# Altium footprint library SJ-2523-SMT-TR.PcbLib: 1 footprints
Each footprint in its own frame and in the unit in brackets; x right, y up, seen from the top. Pads: shape width x height; smd on the part's side, far side on the other; paste and mask are expansions set on the pad; w line width, h text height; cw(c..) or ccw(c..) is an arc to the next point about the centre after c.
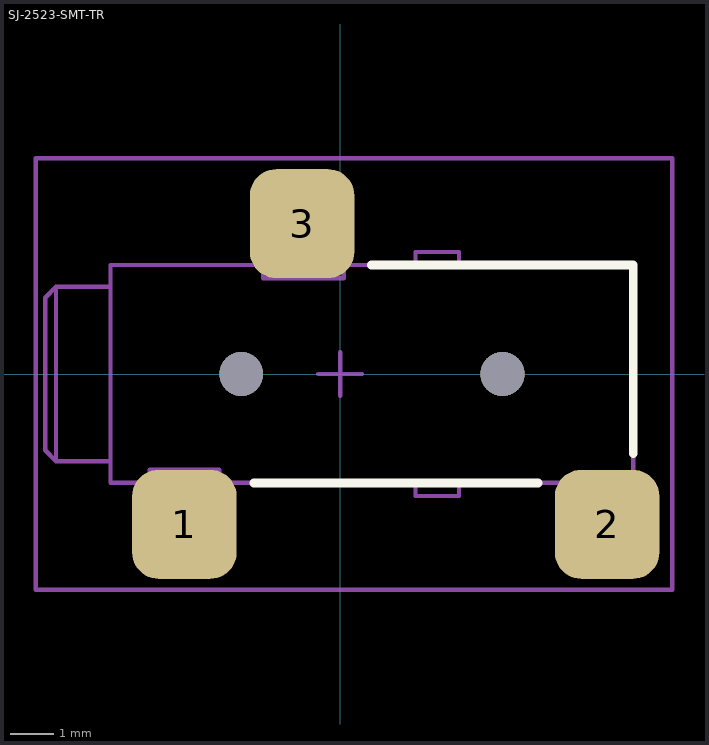
[diagram p0: the footprint, top view; thin cyan lines are the x and y axes]

## SJ-2523-SMT-TR [mm]
pads (3):
  rrect50% 2.4x2.5 smd mask+0: 1(-3.574,-3.45)
  rrect50% 2.4x2.5 smd mask+0.05: 2(6.126,-3.45) 3(-0.874,3.45)
via -2.274,0 diameter 1 hole 1
via 3.726,0 diameter 1 hole 1
Top Overlay:
  lines w0.2: -1.981,-2.5 4.547,-2.5 ; 0.711,2.5 6.729,2.5 6.729,-1.829
Top Assembly:
  lines w0.1: -5.271,-2 -6.521,-2 ; -5.271,2 -6.521,2 ; -4.171,-2.6 -2.971,-2.6 ; -4.171,-2.5 -2.971,-2.5 ; -4.171,-2.2 -4.171,-4 -3.871,-4 -3.571,-3.7 -3.271,-4 -2.971,-4 -2.971,-2.2 ; -1.471,2.2 -1.471,4 -1.171,4 -0.871,3.7 -0.571,4 -0.271,4 -0.271,2.2 ; -1.471,2.5 -0.271,2.5 ; -1.471,2.6 -0.271,2.6 ; 1.729,-2.5 1.729,-2.8 2.729,-2.8 2.729,-2.5 ; 1.729,2.5 1.729,2.8 2.729,2.8 2.729,2.5 ; 5.529,-2.5 5.529,-4 5.829,-4 6.129,-3.7 6.429,-4 6.729,-4 6.729,2.5 0.079,2.5 0.079,2.2 -1.771,2.2 -1.771,2.5 -5.271,2.5 -5.271,-2.5 -4.371,-2.5 -4.371,-2.2 -2.771,-2.2 -2.771,-2.5 6.729,-2.5 ; -6.521,-2 -6.521,2 ; -6.521,-2 -6.771,-1.75 -6.771,1.75 -6.521,2
Top Courtyard:
  lines w0.1: -0.5,0 0,0 ; 0,-0.5 0,0 ; 0,0.5 0,0 ; 0.5,0 0,0 ; -6.985,-4.953 7.62,-4.953 7.62,4.953 -6.985,4.953 -6.985,-4.953
3D body "CUI_SJ-2523-SMT-TR.step": height 4.6, standoff -0.7, extent -6.771,-4 6.729,4